# Altium schematic symbol library Standard_Harwin_Connectors.SchLib: 18 symbols
Pins are listed as number, name and electrical type; pins without a type are passive.

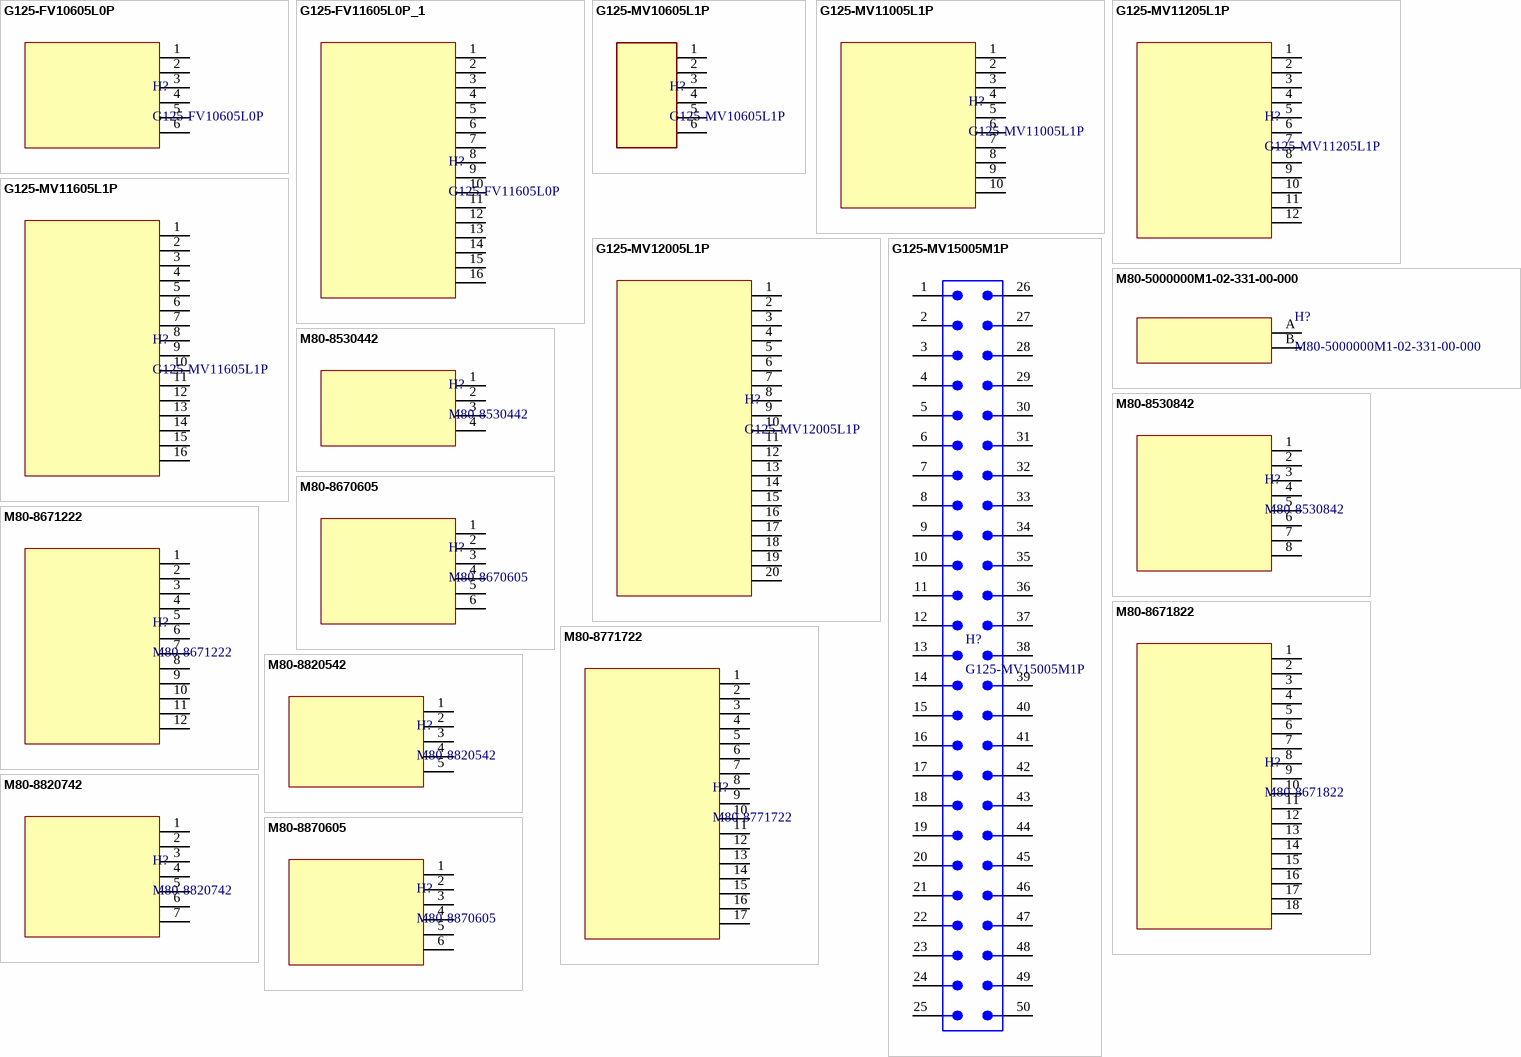
[diagram p0: symbols G125-FV10605L0P to M80-8870605]

## G125-FV10605L0P
designator H?
Gecko 3+3 6-Pin Female Vertical THT Connector 2A
footprint HARWIN G125-FV10605L0P (Gecko 3+3 6-Pin Female Vertical THT Connector 2A)
pins: 1, 2, 3, 4, 5, 6

## G125-FV11605L0P_1
designator H?, comment G125-FV11605L0P
Gecko 8+8 16-Pin Female Vertical THT Connector 2A
footprint Harwin G125-FV11605L0P (Gecko 8+8 16-Pin Female Vertical THT Connector 2A)
pins: 1, 2, 3, 4, 5, 6, 7, 8, 9, 10, 11, 12, 13, 14, 15, 16

## G125-MV10605L1P
designator H?
Gecko 3+3 6-Pin Female Vertical THT Connector 2A
footprint HARWIN 125-MV10605L1P (Gecko 3+3 6-Pin Male Vertical THT Connector 2A)
pins: 1, 2, 3, 4, 5, 6

## G125-MV11005L1P
designator H?
Gecko 5+5 10-Pin Female Vertical THT Connector 2A
footprint Harwin G125-MV11005L1P (Gecko 5+5 10-Pin Female Vertical THT Connector 2A)
pins: 1, 2, 3, 4, 5, 6, 7, 8, 9, 10

## G125-MV11205L1P
designator H?
Gecko 6+6 12-Pin Male Vertical THT Connector 2A
footprint Harwin G125-MV11205L1P (Gecko 6+6 12-Pin Male Vertical THT Connector 2A)
pins: 1, 2, 3, 4, 5, 6, 7, 8, 9, 10, 11, 12

## G125-MV11605L1P
designator H?
Gecko 8+8 16-Pin Male Vertical THT Connector 2A
footprint Harwin G125-MV11605L1P (Gecko 8+8 16-Pin Male Vertical THT Connector 2A)
pins: 1, 2, 3, 4, 5, 6, 7, 8, 9, 10, 11, 12, 13, 14, 15, 16

## G125-MV12005L1P
designator H?
Gecko 10+10 20-Pin Male Vertical THT Connector 2A
footprint Harwin G125-MV12005L1P (Gecko 10+10 20-Pin Male Vertical THT Connector 2A)
pins: 1, 2, 3, 4, 5, 6, 7, 8, 9, 10, 11, 12, 13, 14, 15, 16, 17, 18, 19, 20

## G125-MV15005M1P
designator H?
Gecko 25+25 50-Pin Male Vertical THT Connector 2A
footprint Harwin G125-MV15005M1P (Gecko 25 + 25 50-Pin Male Vertical THT Connector 2A)
pins: 1, 2, 3, 4, 5, 6, 7, 8, 9, 10, 11, 12, 13, 14, 15, 16, 17, 18, 19, 20, 21, 22, 23, 24, 25, 26, 27, 28, 29, 30, 31, 32, 33, 34, 35, 36, 37, 38, 39, 40, 41, 42, 43, 44, 45, 46, 47, 48, 49, 50

## M80-5000000M1-02-331-00-000
designator H?
Power 20A Male Vertical 2-Pin Connector
footprint Harwin M80-5000000M1-02-331-00-000 (Power 20A Male Vertical 2-Pin Connector)
pins: A, B

## M80-8530442
designator H?
LTEK 2+2 4-Pin Male Vertical THT Connector 3A
footprint Harwin M80-8530442 (LTEK 2+2 4-Pin Male Vertical THT Connector 3A)
pins: 1, 2, 3, 4

## M80-8530842
designator H?
LTEK 4+4 8-Pin Male Vertical THT Connector 3A
footprint Harwin M80-8530842 (LTEK 4+4 8-Pin Male Vertical THT Connector 3A)
pins: 1, 2, 3, 4, 5 1, 6, 7, 8

## M80-8670605
designator H?
LTEK 3+3 6-Pin Male Vertical THT Connector 3A
footprint Harwin M80-8670605 (LTEK 3+3 6-Pin Male Vertical THT Connector 3A)
pins: 1, 2, 3, 4, 5 1, 6

## M80-8671222
designator H?
LTEK 6+6 18-Pin Male Vertical THT Connector 3A
footprint Harwin M80-8671222 (LTEK 6+6 18-Pin Male Vertical THT Connector 3A)
pins: 1, 2, 3, 4, 5, 6, 7, 8, 9, 10, 11, 12

## M80-8671822
designator H?
LTEK 9+9 18-Pin Male Vertical THT Connector 3A
footprint Harwin M80-8671822 (LTEK 9+9 18-Pin Male Vertical THT Connector 3A)
pins: 1, 2, 3, 4, 5, 6, 7, 8, 9, 10, 11, 12, 13, 14, 15, 16, 17, 18

## M80-8771722
designator H?
LTEK 17-Pin Male Vertical THT Connector 3A
footprint Harwin M80-8771722 (LTEK 17-Pin Male Vertical THT Connector 3A)
pins: 1, 2, 3, 4, 5, 6, 7, 8, 9, 10, 11, 12, 13, 14, 15, 16, 17

## M80-8820542
designator H?
LTEK 5-Pin Male Vertical THT Connector 3A
footprint Harwin M80-8820542 (LTEK 5-Pin Male Vertical THT Connector 3A)
pins: 1, 2, 3, 4, 5

## M80-8820742
designator H?
LTEK 7-Pin Male Vertical THT Connector 3A
footprint Harwin M80-8820742 (LTEK 7-Pin Male Vertical THT Connector 3A)
pins: 1, 2, 3, 4, 5, 6, 7

## M80-8870605
designator H?
LTEK 3+3 6-Pin Female Vertical THT Connector 3A
footprint Harwin M80-8870605 (LTEK 3+3 6-Pin Female Vertical THT Connector 3A)
pins: 1, 2, 3, 4, 5 1, 6